# EAGLE library part DAC:AD5666(16BIT-SER-QUAD) (library QuantumOptics)
AD5666aruz-2, Analog Devices, quad serial 16-bit DAC, 14-TSSOP, http://www.analog.com/UploadedFiles/Data_Sheets/354265261AD5666_prb.pdf
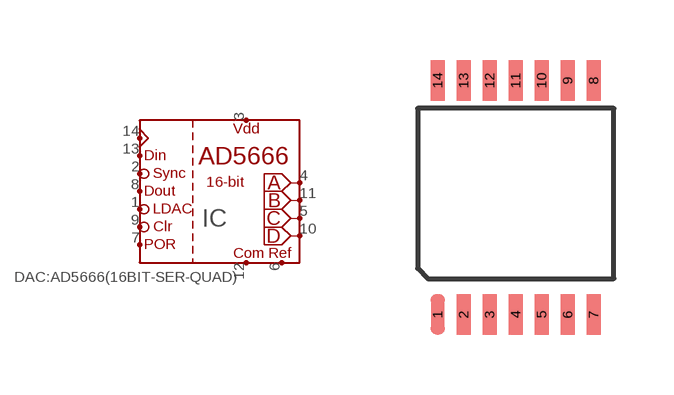
[diagram p53: symbol with the pads of TSSOP-14; footprint TSSOP-14]

Designator prefix IC

## DAC:AD5666(16BIT-SER-QUAD)  [TSSOP-14]
1  ~LDAC  in
2  ~SYNC  in
3  VDD
4  OUT-A  out
5  OUT-C  out
6  VREF
7  POR  in
8  SDO  out
9  ~CLR  in
10  OUT-D  out
11  OUT-B  out
12  COM
13  DIN  in
14  SCLK  in

## Footprint TSSOP-14 (pad centres in mm)
TSSOP-14, pins 0.65mm c-c spacing, nominal 6.4mm rows.
smd 0.356 x 1.016: 1 0,-2.925; 2 0.65,-2.925; 3 1.3,-2.925; 4 1.95,-2.925; 5 2.6,-2.925; 6 3.25,-2.925; 7 3.9,-2.925; 8 3.9,2.925; 9 3.25,2.925; 10 2.6,2.925; 11 1.95,2.925; 12 1.3,2.925; 13 0.65,2.925; 14 0,2.925